# Altium integrated library CONUFL001-SMD.IntLib: 1 symbol
Pins are listed as number, name and electrical type; pins without a type are passive.

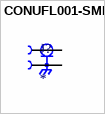
[diagram p0: symbol CONUFL001-SMD]

## CONUFL001-SMD
designator J?
MF: Linx; MP: CONUFL001-SMD; Availability: In Stock; Price: None; SnapEDA_Link: https://www.snapeda.com/parts/CONUFL001-SMD/Linx/view-part/5842340/?ref=snap; Value: *; Check_prices: https://www.snapeda.com/parts/CONUFL001-SMD/Linx/view-part/5842340/?ref=eda; Package: None
footprint LINX_CONUFL001-SMD
pins: 1, 2, 3 2